# Altium schematic symbol library QBW01.SchLib: 1 symbol
Pins are listed as number, name and electrical type; pins without a type are passive.

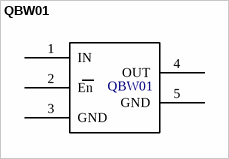
[diagram p0: symbol QBW01]

## QBW01
designator ?
footprint QBW01 (QBW0112V18ADCDC)
pins: 1 IN, 2 En, 3 GND, 4 OUT, 5 GND